# Altium footprint library BHKSPRE.PcbLib: 29 footprints (part 1 of 2)
Each footprint in its own frame and in the unit in brackets; x right, y up, seen from the top. Pads: shape width x height; smd on the part's side, far side on the other; paste and mask are expansions set on the pad; w line width, h text height; cw(c..) or ccw(c..) is an arc to the next point about the centre after c.
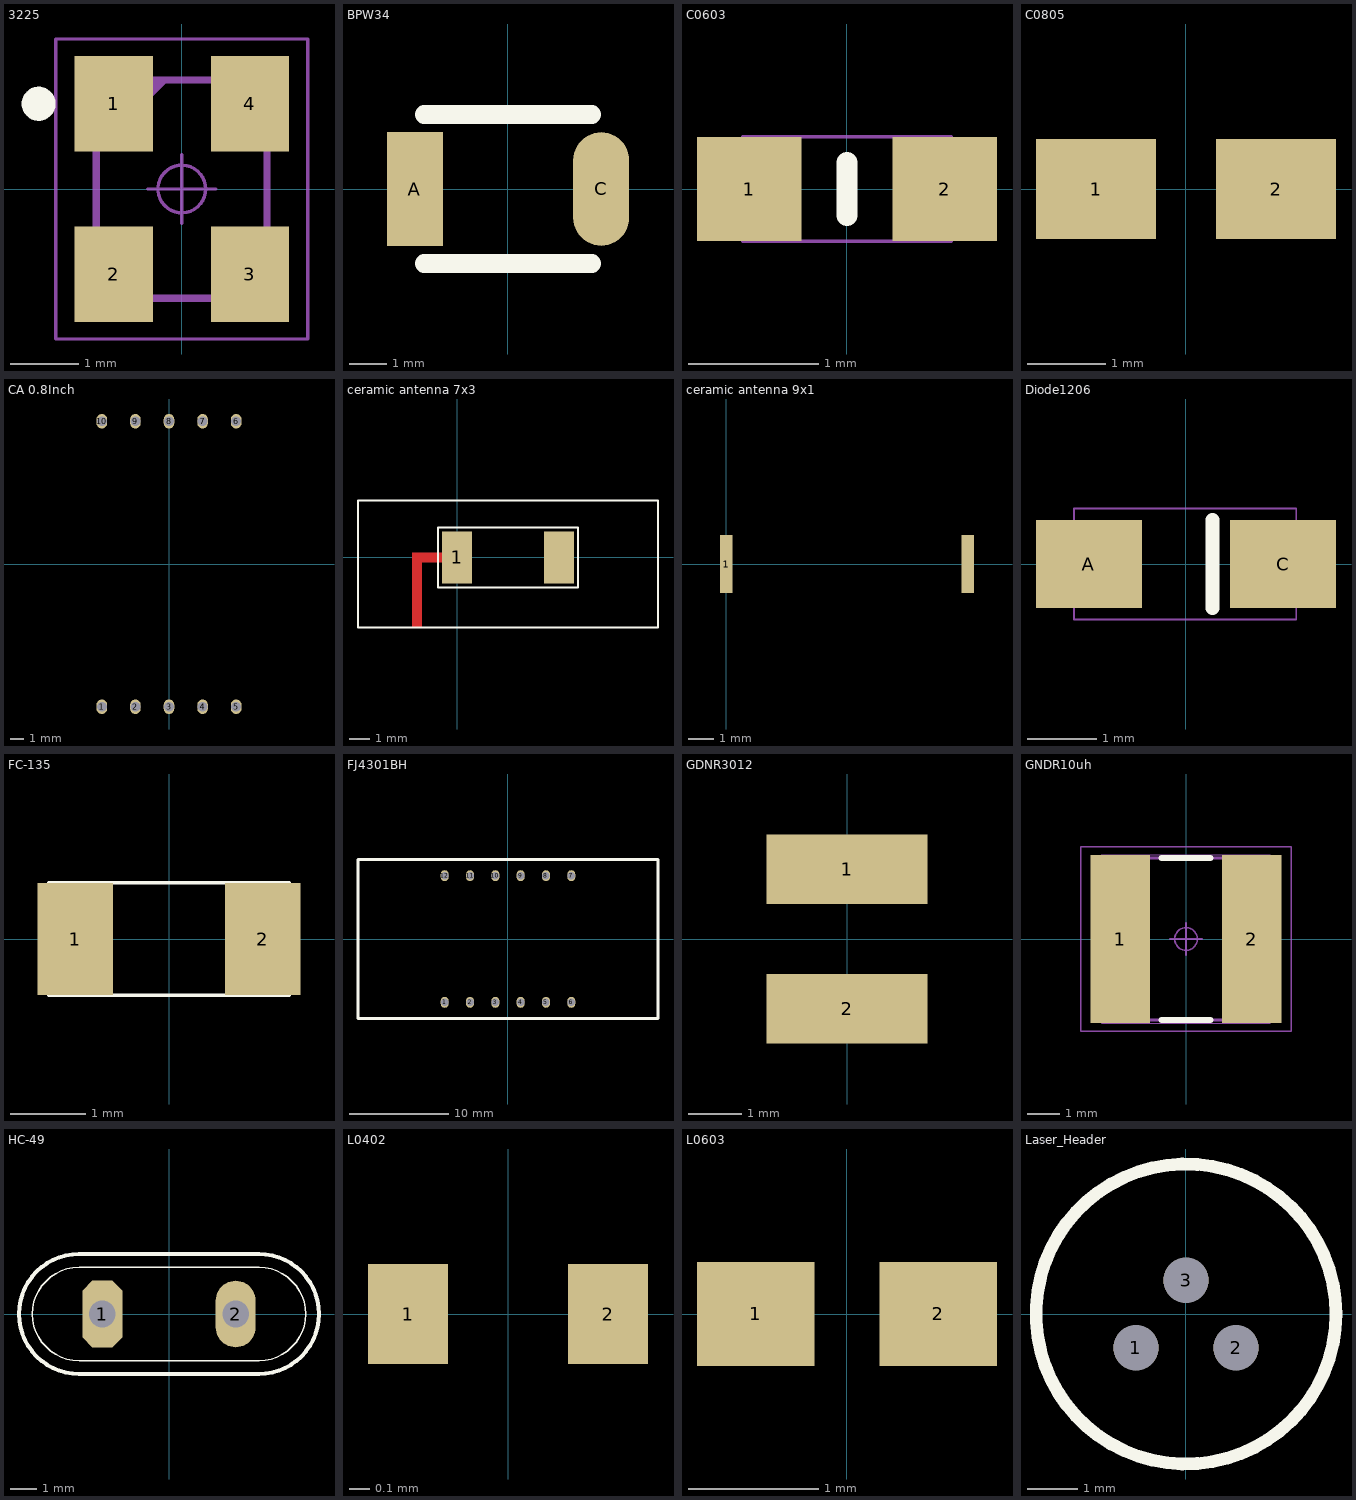
[diagram p0: the footprints below, top view; thin cyan lines are the x and y axes]

## 3225 [mm]
pads (4):
  rect 1.15x1.4 smd: 1(-1,1.25) 2(-1,-1.25) 3(1,-1.25) 4(1,1.25)
Top Overlay:
  circle w0.25: c-2.1,1.25 r0.125
Mechanical 15:
  lines w0.1: -1.25,0.6 -0.25,1.6 ; -1.25,0.7 -0.35,1.6 ; -1.25,0.8 -0.45,1.6 ; -1.25,0.9 -0.55,1.6 ; -1.25,1 -0.65,1.6 ; -1.25,1.1 -0.75,1.6 ; -1.25,1.2 -0.85,1.6 ; -1.25,1.3 -0.95,1.6 ; -1.25,1.4 -1.05,1.6 ; -1.25,1.5 -1.15,1.6 ; -1.25,-1.6 -1.25,1.6 1.25,1.6 1.25,-1.6 -1.25,-1.6
Mechanical 16:
  circle w0.05: c0,0 r0.35
  lines w0.001: -1.3,-1.65 -1.3,1.65 1.3,1.65 1.3,-1.65 -1.3,-1.65
  lines w0.05: -0.5,0 0.5,0 ; 0,-0.5 0,0.5 ; -1.85,-2.2 -1.85,2.2 1.85,2.2 1.85,-2.2 -1.85,-2.2
3D body: height 0.7, standoff 0, extent -1.25,-1.6 1.25,1.6

## BPW34 [mm]
pads (2):
  rect 1.5x3.048 smd: A(-2.5,0)
  oval 1.5x3.048 smd: C(2.5,0)
Top Overlay:
  lines w0.5: -2.25,-2 2.25,-2 ; -2.25,2 2.25,2

## C0603 [mm]
pads (2):
  rect 0.8x0.8 smd: 1(-0.75,0) 2(0.75,0)
Top Overlay:
  lines w0.16: 0,-0.203 0,0.203
Mechanical 13:
  lines w0.025: -0.8,-0.4 0.8,-0.4 0.8,0.4 -0.8,0.4 -0.8,-0.4
3D body: height 0.8, standoff 0, extent -0.8,-0.4 0.8,0.4

## C0805 [mil]
pads (2):
  rect 60x50 smd: 1(-45,0) 2(45,0)
3D body: height 31.5, standoff 0, extent -51.97,-25.2 54.72,25.2

## CA 0.8Inch [mm]
pads (10):
  oval 0.8x1.1 hole 0.75: 1(-5.08,-10.8) 2(-2.54,-10.8) 3(0,-10.8) 4(2.54,-10.8) 5(5.08,-10.8) 6(5.08,10.8) 7(2.54,10.8) 8(0,10.8) 9(-2.54,10.8) 10(-5.08,10.8)
3D body: height 15.1, standoff 15, extent -3.42,6.63 5.6,8.41
3D body: height 15.1, standoff 15, extent 5.167,-8.428 6.96,-6.632
3D body: height 15, standoff 5.5, extent -10,-13.85 10,13.86
3D body: height 5.5, standoff 5, extent -10,9.09 -5.04,13.86
3D body: height 5.5, standoff 5, extent 4.98,9.02 10,13.86
3D body: height 5.5, standoff 5, extent 5.04,-13.85 10,-9.12
3D body: height 5.5, standoff 5, extent -10,-13.85 -4.96,-9.17
3D body: height 7.4, standoff -1.6, extent -5.305,10.605 -4.855,10.995
3D body: height 7.4, standoff -1.6, extent -2.765,10.605 -2.315,10.995
3D body: height 7.4, standoff -1.6, extent -0.225,10.605 0.225,10.995
3D body: height 7.4, standoff -1.6, extent 2.315,10.605 2.765,10.995
3D body: height 7.4, standoff -1.6, extent 4.855,10.605 5.305,10.995
3D body: height 7.4, standoff -1.6, extent -5.305,-10.995 -4.855,-10.605
3D body: height 7.4, standoff -1.6, extent -2.765,-10.995 -2.315,-10.605
3D body: height 7.4, standoff -1.6, extent -0.225,-10.995 0.225,-10.605
3D body: height 7.4, standoff -1.6, extent 2.315,-10.995 2.765,-10.605
3D body: height 7.4, standoff -1.6, extent 4.855,-10.995 5.305,-10.605
3D body: height 15.1, standoff 15, extent -5.14,0.13 -2.3,7.87
3D body: height 15.1, standoff 15, extent -4.27,-0.84 3.88,0.85
3D body: height 15.1, standoff 15, extent -6.61,-7.67 -3.71,-0.11
3D body: height 15.1, standoff 15, extent -6.06,-8.41 2.89,-6.61
3D body: height 15.1, standoff 15, extent 1.843,-7.883 4.74,-0.11
3D body: height 15.1, standoff 15, extent 3.27,0.14 6.21,7.71

## ceramic antenna 7x3 [mm]
pads (2):
  rect 1.5x2.6 smd: 1(0,0) ""(5.1,0)
Top Layer:
  region: 0.25,0.25 -2.25,0.25 -2.25,-0.25 0.25,-0.25
  region: -1.75,-3.52 -1.75,0.25 -2.25,0.25 -2.25,-3.52
Top Overlay:
  lines w0.1: -4.95,-3.5 -4.95,2.83 10.05,2.83 10.05,-3.5 -4.95,-3.5 ; -0.95,-1.5 6.05,-1.5 6.05,1.5 -0.95,1.5 -0.95,-1.5
3D body: height 1, standoff 0, extent -0.95,-1.5 6.05,1.5

## ceramic antenna 9x1 [mm]
pads (2):
  rect 0.5x2.3 smd: 1(0,0) ""(9.5,0)
3D body: height 1, standoff 0, extent 0,-1.1 9.5,1.1

## Diode1206 [mil]
pads (2):
  rect 60x50 smd: A(-55,0) C(55,0)
Top Overlay:
  lines w7.87: 15,-25 15,25
Mechanical 13:
  lines w1: -63.44,-31.5 62.54,-31.5 62.54,31.5 -63.44,31.5 -63.44,-31.5
3D body: height 62.99, standoff 0, extent -63.44,-31.5 62.54,31.5

## FC-135 [mm]
pads (2):
  rect 1x1.5 smd: 1(-1.25,0) 2(1.25,0)
Top Overlay:
  lines w0.051: -1.6,-0.75 1.6,-0.75 1.6,0.75 -1.6,0.75 -1.6,-0.75
3D body: height 0.8, standoff 0, extent -1.6,-0.75 1.6,0.75

## FJ4301BH [mm]
pads (12):
  oval 0.8x1.1 hole 0.75: 1(-6.35,-6.35) 2(-3.81,-6.35) 3(-1.27,-6.35) 4(1.27,-6.35) 5(3.81,-6.35) 6(6.35,-6.35) 7(6.35,6.35) 8(3.81,6.35) 9(1.27,6.35) 10(-1.27,6.35) 11(-3.81,6.35) 12(-6.35,6.35)
Top Overlay:
  lines w0.3: -15.05,-8 15.05,-8 15.05,8 -15.05,8 -15.05,-8
3D body: height 7.4, standoff -1.6, extent 3.611,-6.505 4.061,-6.115
3D body: height 7.4, standoff -1.6, extent 6.151,-6.505 6.601,-6.115
3D body: height 5.5, standoff 5, extent -15.05,3.23 -10.09,8
3D body: height 5.5, standoff 5, extent 10.03,3.16 15.05,8
3D body: height 5.5, standoff 5, extent 10.09,-8 15.05,-3.27
3D body: height 5.5, standoff 5, extent -15.05,-8 -10.01,-3.32
3D body: height 7.4, standoff -1.6, extent -6.572,6.139 -6.122,6.529
3D body: height 7.4, standoff -1.6, extent -4.032,6.139 -3.582,6.529
3D body: height 7.4, standoff -1.6, extent -1.492,6.139 -1.042,6.529
3D body: height 7.4, standoff -1.6, extent 1.048,6.139 1.498,6.529
3D body: height 7.4, standoff -1.6, extent 3.588,6.139 4.038,6.529
3D body: height 7.4, standoff -1.6, extent -6.588,-6.502 -6.138,-6.112
3D body: height 7.4, standoff -1.6, extent -4.048,-6.502 -3.598,-6.112
3D body: height 7.4, standoff -1.6, extent -1.508,-6.502 -1.058,-6.112
3D body: height 7.4, standoff -1.6, extent 1.032,-6.502 1.482,-6.112
3D body: height 15, standoff 5.5, extent -15.05,-8 15.05,8
3D body: height 15.1, standoff 15, extent -7.14,0.393 -5.711,5.372
3D body: height 15.1, standoff 15, extent -8.058,-5.112 -6.404,0.3
3D body: height 15.1, standoff 15, extent -12.452,-5.397 -7.569,-4.582
3D body: height 15.1, standoff 15, extent -12.624,-5.02 -11.066,0.217
3D body: height 15.1, standoff 15, extent -11.499,-0.36 -6.718,0.654
3D body: height 15.1, standoff 15, extent -11.858,0.357 -10.227,5.691
3D body: height 15.1, standoff 15, extent -6.594,-5.819 -5.797,-5.021
3D body: height 15.1, standoff 15, extent -10.516,4.915 -5.945,6.004
3D body: height 15.1, standoff 15, extent 2.084,0.364 3.513,5.342
3D body: height 15.1, standoff 15, extent 1.166,-5.141 2.82,0.271
3D body: height 15.1, standoff 15, extent -3.228,-5.426 1.655,-4.611
3D body: height 15.1, standoff 15, extent -3.4,-5.049 -1.842,0.188
3D body: height 15.1, standoff 15, extent -2.275,-0.389 2.506,0.625
3D body: height 15.1, standoff 15, extent -2.634,0.328 -1.003,5.662
3D body: height 15.1, standoff 15, extent 2.63,-5.848 3.427,-5.05
3D body: height 15.1, standoff 15, extent -1.292,4.886 3.279,5.975
3D body: height 15.1, standoff 15, extent 11.139,0.345 12.568,5.323
3D body: height 15.1, standoff 15, extent 10.221,-5.16 11.875,0.252
3D body: height 15.1, standoff 15, extent 5.827,-5.445 10.71,-4.63
3D body: height 15.1, standoff 15, extent 5.655,-5.068 7.213,0.169
3D body: height 15.1, standoff 15, extent 6.78,-0.408 11.561,0.606
3D body: height 15.1, standoff 15, extent 6.421,0.309 8.052,5.643
3D body: height 15.1, standoff 15, extent 11.685,-5.867 12.482,-5.069
3D body: height 15.1, standoff 15, extent 7.763,4.867 12.334,5.956

## GDNR3012 [mm]
pads (2):
  rect 3x1.3 smd: 1(0,1.3) 2(0,-1.3)
3D body: height 1.2, standoff 0, extent -1.5,-1.5 1.5,1.5

## GNDR10uh [mm]
pads (2):
  rect 1.85x5.2 smd: 1(-2.03,0) 2(2.03,0)
Top Overlay:
  lines w0.2: -0.75,-2.5 0.75,-2.5 ; -0.75,2.5 0.75,2.5
Mechanical 15:
  lines w0.1: -2.5,-2.5 2.5,-2.5 2.5,2.5 -2.5,2.5 -2.5,-2.5
Mechanical 16:
  circle w0.05: c0,0 r0.35
  lines w0.001: -2.6,-2.6 2.6,-2.6 2.6,2.6 -2.6,2.6 -2.6,-2.6
  lines w0.05: -0.5,0 0.5,0 ; 0,-0.5 0,0.5 ; -3.25,-2.85 -3.25,2.85 3.25,2.85 3.25,-2.85 -3.25,-2.85
3D body: height 4, standoff 0, extent -2.5,-2.5 2.5,2.5

## HC-49 [mil]
pads (2):
  oct 60x100 hole 40: 1(-100,0)
  oval 60x100 hole 40: 2(100,0)
Top Overlay:
  lines w2: -135,-70 cw(c-135,0) -135,70 135,70 cw(c135,0) 135,-70 -135,-70
  lines w6: -135,-90 cw(c-135,0) -135,90 135,90 cw(c135,0) 135,-90 -135,-90
3D body: height 133.86, standoff 0, extent -224.41,-90.55 226,89.09

## L0402 [mm]
pads (2):
  rect 0.4x0.5 smd: 1(-0.5,0) 2(0.5,0)
3D body: height 0.5, standoff 0, extent -0.53,-0.27 0.54,0.26

## L0603 [mm]
pads (2):
  rect 0.9x0.8 smd: 1(-0.7,0) 2(0.7,0)
3D body: height 0.8, standoff 0, extent -0.8,-0.4 0.8,0.4

## Laser_Header [mm]
pads (3):
  round 0.9 hole 0.9 unplated: 1(-1,-0.675) 2(1,-0.675) 3(0,0.675)
Top Overlay:
  circle w0.254: c0,0 r3
3D body: height 16.7, standoff 0, extent -2.976,-2.994 3,2.994